# EAGLE library part VCA820ID (library VCA820ID)
150MHz BW with linear in dB gain control variable gain amplifier Source: Datasheet <http://www.ti.com/lit/gpn/vca820>
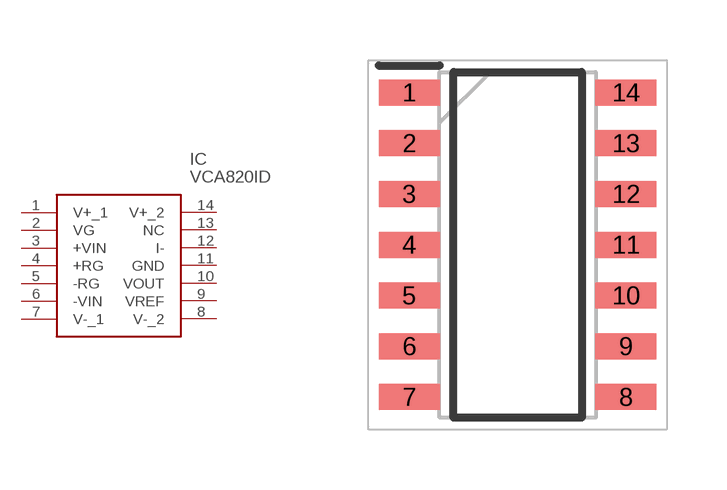
[diagram p0: symbol with the pads of SOIC127P600X175-14N; footprint SOIC127P600X175-14N]

Designator prefix IC

## VCA820ID (Description: 150MHz BW with linear in dB gain control variable gain amplifier; Height: 1.75mm; Manufacturer_Name: Texas Instruments; Manufacturer_Part_Number: VCA820ID; Mouser_Part_Number: 595-VCA820ID; Mouser_Price-Stock: https://www.mouser.co.uk/ProductDetail/Texas-Instruments/VCA820ID?qs=lqm1LiGWV1%252B%2FxLsKic6RDQ%3D%3D)  [SOIC127P600X175-14N]
1  V+_1
2  VG
3  +VIN
4  +RG
5  -RG
6  -VIN
7  V-_1
8  V-_2
9  VREF
10  VOUT
11  GND
12  I-
13  NC  nc
14  V+_2

## Footprint SOIC127P600X175-14N (pad centres in mm)
D
smd 1.525 x 0.65: 1 -2.712,3.81; 2 -2.712,2.54; 3 -2.712,1.27; 4 -2.712,0; 5 -2.712,-1.27; 6 -2.712,-2.54; 7 -2.712,-3.81; 8 2.712,-3.81; 9 2.712,-2.54; 10 2.712,-1.27; 11 2.712,0; 12 2.712,1.27; 13 2.712,2.54; 14 2.712,3.81